# EAGLE library part MKR1000 (library mkr1000)
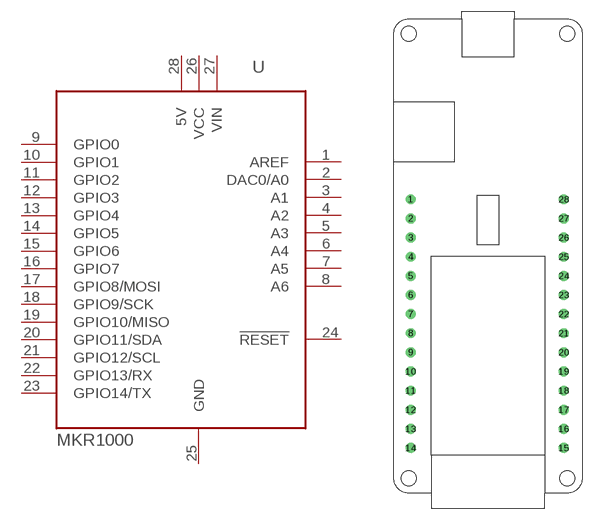
[diagram p0: symbol with the pads of MKR1000; footprint MKR1000]

Designator prefix U

## MKR1000  [MKR1000]
1  AREF
2  DAC0/A0
3  A1
4  A2
5  A3
6  A4
7  A5
8  A6
9  GPIO0
10  GPIO1
11  GPIO2
12  GPIO3
13  GPIO4
14  GPIO5
15  GPIO6
16  GPIO7
17  GPIO8/MOSI
18  GPIO9/SCK
19  GPIO10/MISO
20  GPIO11/SDA
21  GPIO12/SCL
22  GPIO13/RX
23  GPIO14/TX
24  !RESET
25  GND
26  VCC
27  VIN
28  5V

## Footprint MKR1000 (pad centres in mm)
drill 0.8: 1 -10.25,7.52; 2 -10.25,4.98; 3 -10.25,2.44; 4 -10.25,-0.1; 5 -10.25,-2.64; 6 -10.25,-5.18; 7 -10.25,-7.72; 8 -10.25,-10.26; 9 -10.25,-12.8; 10 -10.25,-15.34; 11 -10.25,-17.88; 12 -10.25,-20.42; 13 -10.25,-22.96; 14 -10.25,-25.5; 15 10.07,-25.5; 16 10.07,-22.96; 17 10.07,-20.42; 18 10.07,-17.88; 19 10.07,-15.34; 20 10.07,-12.8; 21 10.07,-10.26; 22 10.07,-7.72; 23 10.07,-5.18; 24 10.07,-2.64; 25 10.07,-0.1; 26 10.07,2.44; 27 10.07,4.98; 28 10.07,7.52